# EAGLE library part TRIAC_OPTO (library ZMPLC)
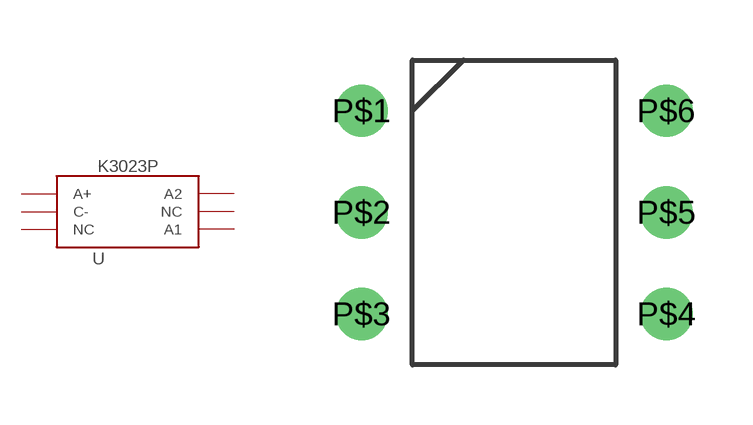
[diagram p20: symbol with the pads of DIP6; footprint DIP6]

Designator prefix -

## TRIAC_OPTO  [DIP6]
P$1  A+
P$2  C-
P$3  NC  nc
P$4  A1
P$5  NC  nc
P$6  A2

## Footprint DIP6 (pad centres in mm)
drill 0.8: P$1 0,0; P$2 0,-2.54; P$3 0,-5.08; P$4 7.62,-5.08; P$5 7.62,-2.54; P$6 7.62,0